# EAGLE library part SPECTRUM_6100E (library AHNS10)
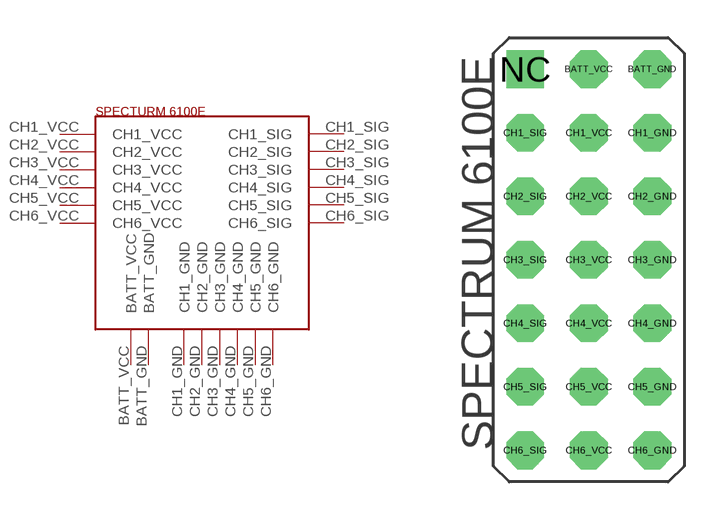
[diagram p2: symbol with the pads of SPECTRUM_6100E; footprint SPECTRUM_6100E]

Designator prefix -

## SPECTRUM_6100E  [SPECTRUM_6100E]
BATT_GND  BATT_GND
BATT_VCC  BATT_VCC
CH1_GND  CH1_GND
CH1_SIG  CH1_SIG
CH1_VCC  CH1_VCC
CH2_GND  CH2_GND
CH2_SIG  CH2_SIG
CH2_VCC  CH2_VCC
CH3_GND  CH3_GND
CH3_SIG  CH3_SIG
CH3_VCC  CH3_VCC
CH4_GND  CH4_GND
CH4_SIG  CH4_SIG
CH4_VCC  CH4_VCC
CH5_GND  CH5_GND
CH5_SIG  CH5_SIG
CH5_VCC  CH5_VCC
CH6_GND  CH6_GND
CH6_SIG  CH6_SIG
CH6_VCC  CH6_VCC

## Footprint SPECTRUM_6100E (pad centres in mm)
drill 1 octagon: BATT_GND 2.54,7.62; BATT_VCC 0,7.62; CH1_GND 2.54,5.08; CH1_SIG -2.54,5.08; CH1_VCC 0,5.08; CH2_GND 2.54,2.54; CH2_SIG -2.54,2.54; CH2_VCC 0,2.54; CH3_GND 2.54,0; CH3_SIG -2.54,0; CH3_VCC 0,0; CH4_GND 2.54,-2.54; CH4_SIG -2.54,-2.54; CH4_VCC 0,-2.54; CH5_GND 2.54,-5.08; CH5_SIG -2.54,-5.08; CH5_VCC 0,-5.08; CH6_GND 2.54,-7.62; CH6_SIG -2.54,-7.62; CH6_VCC 0,-7.62
drill 1 square: NC -2.54,7.62